# EAGLE library part LTC1733 (library ee_projects)
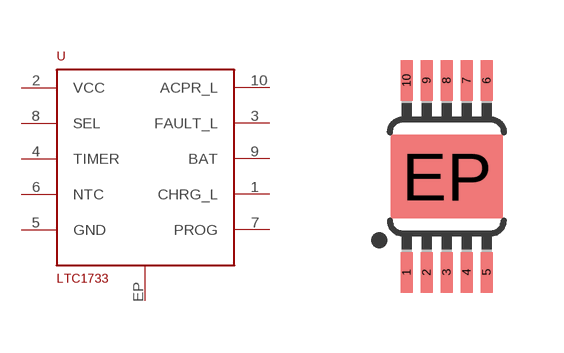
[diagram p13: symbol with the pads of MSOP10_EP; footprint MSOP10_EP]

Designator prefix -

## LTC1733  [MSOP10_EP]
1  CHRG_L
2  VCC
3  FAULT_L
4  TIMER
5  GND
6  NTC
7  PROG
8  SEL
9  BAT
10  ACPR_L
EP  EXPPAD

## Footprint MSOP10_EP (pad centres in mm)
smd 0.3 x 1.02: 1 -1,-2.4; 2 -0.5,-2.4; 3 0,-2.4; 4 0.5,-2.4; 5 1,-2.4; 6 1,2.4; 7 0.5,2.4; 8 0,2.4; 9 -0.5,2.4; 10 -1,2.4
smd 2.794 x 2.083: EP 0,0